# Altium integrated library Infineon_Power_DC-DC-Converter.IntLib: 32 symbols (part 1 of 3)
Pins are listed as number, name and electrical type; pins without a type are passive.

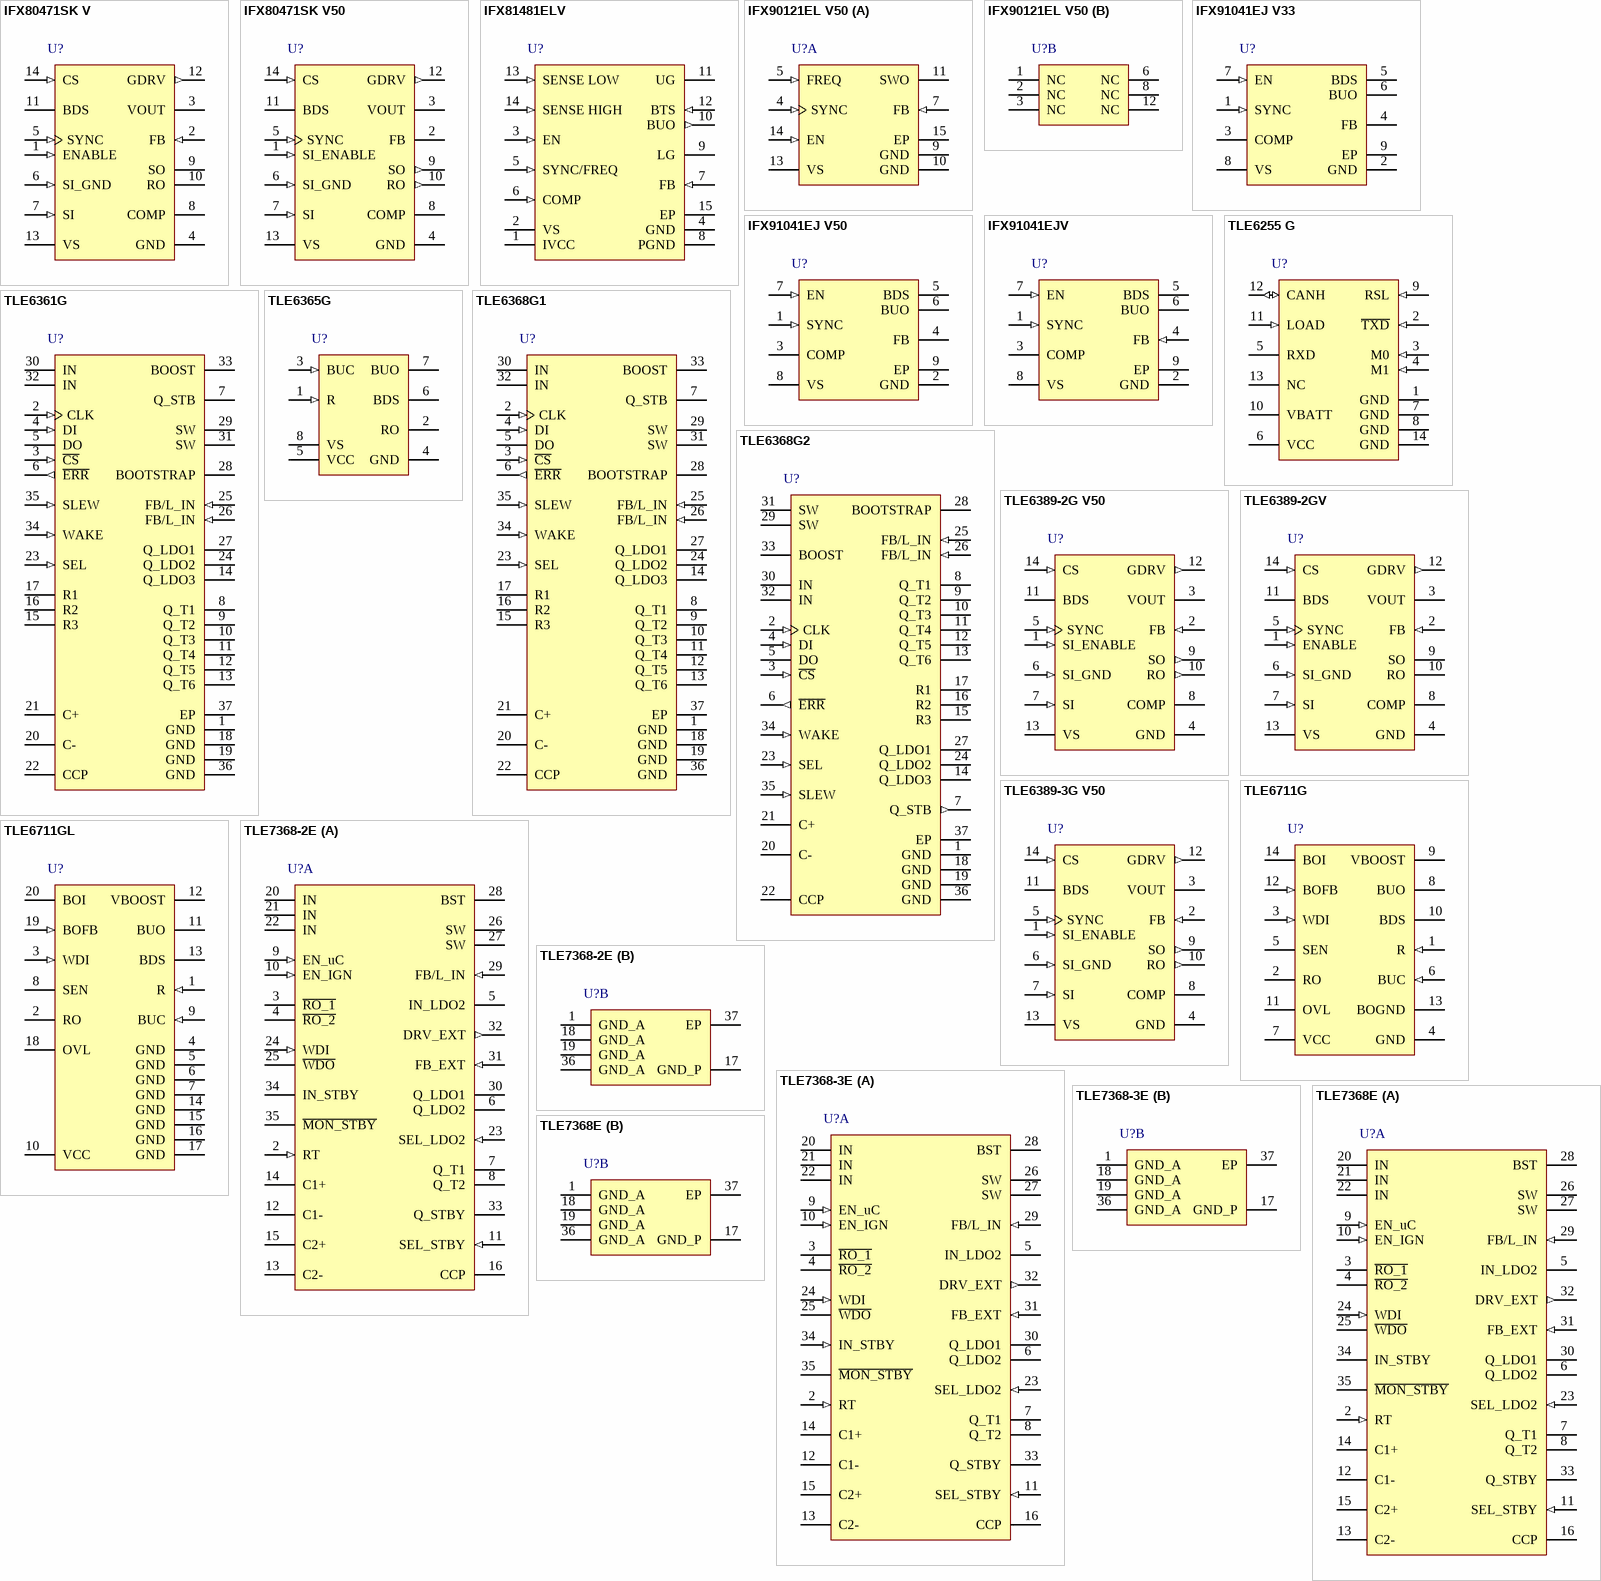
[diagram p0: symbols IFX80471SK V to TLE7368E]

## IFX80471SK V
designator U?
Step-Down DC/DC Controller, 2,300 mA Iq, -40 to 125 degC, PG-DSO-14-1, Reel, Green; Manufacturer: Infineon; PartNumber: IFX80471SK V; Green: TRUE; Iq (typ): 130 uA; Max Number Reflow: 3; Max Peak Reflow Temp: 260 degC; Output: Buck Converter; Tolerance: 3(5)%; VQ (max): adjustable; DatasheetVersion: Rev. 1.0; PackageVersion: Apr-11; PackageReference: PG-DSO-14-1; PackageDescription: 14-Pin Plastic (Green) Dual Small Outline Package, 8.65 x 3.9 mm Body, 1.27 mm Pitch; Supplier 1: Mouser; Supplier Part Number 1: 726-IFX80471SKV; Supplier 2: Digi-Key; Supplier Part Number 2: IFX80471SK VINTR-ND; Supplier 3: Digi-Key; Supplier Part Number 3: IFX80471SK VINCT-ND; Supplier 4: Digi-Key; Supplier Part Number 4: IFX80471SK VINDKR-ND; Halogen-free: TRUE; Inhibit: TRUE; IQ (max): 2,300 mA; MSL: 3; Packing: Reel; Protect: TRUE; Reset: TRUE; Mounting Technology: Surface Mount; ComponentLink1Description: Manufacturer URL; ComponentLink1URL: http://www.infineon.com/; ComponentLink2Description: Datasheet; ComponentLink2URL: http://www.infineon.com/dgdl/DCDC-Controller-IFX80471-Data-Sheet-V10-Infineon.pdf?folderId=db3a304314dca3890115039cf70d0bf0&fileId=db3a30432e398416012e487ec6e42599; ComponentLink3Description: Package Specification; ComponentLink3URL: http://www.infineon.com/dgdl/DCDC-Controller-IFX80471-Data-Sheet-V10-Infineon.pdf?folderId=db3a304314dca3890115039cf70d0bf0&fileId=db3a30432e398416012e487ec6e42599
footprint INF-PG-DSO-14-1_N (SOP, 14-Leads, Body 8.65x3.9mm, Pitch 1.27mm, IPC Medium Density)
footprint INF-PG-DSO-14-1_L (SOP, 14-Leads, Body 8.65x3.9mm, Pitch 1.27mm, IPC High Density)
footprint INF-PG-DSO-14-1_M (SOP, 14-Leads, Body 8.65x3.9mm, Pitch 1.27mm, IPC Low Density)
pins: 1 ENABLE (in) "Active-High enable input (only adjustable version, IFX80471SKV) for the  device.  The device is shut down when ENABLE is driven low. In this shut down-mode the  reference, the output and the external MOSFET are turned off. (See Datasheet)", 2 FB (in) "Feedback input. 1. For adjustable version (IFX80471SKV) connect this pin to an external voltage  divider from the output to GND (see Chapter 7.2). 2. For the 5V fixed output voltage version (IFX80471SKV50) the FB is (See Datasheet)", 3 VOUT (power) "Buck output voltage input. Input for the internal supply. Connect always to the output of the buck converter  (output capacitor).", 4 GND (power) "Ground connection. Analog signal ground", 5 SYNC (in) "Input for external frequency synchronization.  An external clock signal connected to this pin allows switching frequency  synchronization of the device. The internal oscillator is clocked then by the  frequency applied at (See Datasheet)", 6 SI_GND (in) "SI-Ground input.  Ground connection for SI comparator resistor divider. Depending on SI_ENABLE  this input is switched to high impedance or low ohmic to GND.", 7 SI (in) "Sense comparator input.  Input of the low-battery comparator. This input is compared to an internal 1.25V  reference where SO gives the result of the comparison. Can be used for any  comparison, not necessarily as battery (See Datasheet)", 8 COMP "Compensation input. Connect via RC-compensation network to GND.", 9 SO (oc) "Sense comparator output.  Open drain output from SI comparator at the adjustable version (IFX80471SKV), Pull down structure with an internal 20kohm pull up resistor to VOUT at the 5V version  (IFX80471SKV50).", 10 RO (oc) "Reset output.  Open drain output from undervoltage reset comparator at the adjustable version  (IFX80471SKV), Pull down structure with an internal 20kohm pull up resistor to VOUT at the 5V version  (IFX80471SKV50).", 11 BDS (power) "Buck driver supply input.  Connect a ceramic capacitor between BDS and VS to generate clamped gatesource voltage to supply the driver of the PMOS power stage.", 12 GDRV (out) "Gate drive output. Connect to the gate of the external P-Channel MOSFET. The voltage at GDRV  swings between the levels of VS and BDS.", 13 VS (power) "Device supply input.  Connect a 220nF ceramic cap close to the pin in addition to the low ESR tantalum  input capacitance.", 14 CS (in) "Current-sense input.  Connect current-sense resistor between VS and CS. The voltage drop over the  sense-resistor determines the peak current flowing in the buck circuit. The external  MOSFET is turned off when the peak (See Datasheet)"

## IFX80471SK V50
designator U?
Step-Down DC/DC Controller, 2,300 mA Iq, -40 to 125 degC, PG-DSO-14-1, Reel, Green; Manufacturer: Infineon; PartNumber: IFX80471SK V50; Green: TRUE; Iq (typ): 130 uA; Max Number Reflow: 3; Max Peak Reflow Temp: 260 degC; Output: Buck Converter; Tolerance: 3(5)%; VQ (max): 5 V; DatasheetVersion: Rev. 1.0; PackageVersion: Apr-11; PackageReference: PG-DSO-14-1; PackageDescription: 14-Pin Plastic (Green) Dual Small Outline Package, 8.65 x 3.9 mm Body, 1.27 mm Pitch; Supplier 1: Mouser; Supplier Part Number 1: 726-IFX80471SKV50; Supplier 2: Digi-Key; Supplier Part Number 2: IFX80471SK V50INTR-ND; Supplier 3: Digi-Key; Supplier Part Number 3: IFX80471SK V50INCT-ND; Supplier 4: Digi-Key; Supplier Part Number 4: IFX80471SK V50INDKR-ND; Halogen-free: TRUE; Inhibit: TRUE; IQ (max): 2,300 mA; MSL: 3; Packing: Reel; Protect: TRUE; Reset: TRUE; Mounting Technology: Surface Mount; ComponentLink1Description: Manufacturer URL; ComponentLink1URL: http://www.infineon.com/; ComponentLink2Description: Datasheet; ComponentLink2URL: http://www.infineon.com/dgdl/DCDC-Controller-IFX80471-Data-Sheet-V10-Infineon.pdf?folderId=db3a304314dca3890115039cf70d0bf0&fileId=db3a30432e398416012e487ec6e42599; ComponentLink3Description: Package Specification; ComponentLink3URL: http://www.infineon.com/dgdl/DCDC-Controller-IFX80471-Data-Sheet-V10-Infineon.pdf?folderId=db3a304314dca3890115039cf70d0bf0&fileId=db3a30432e398416012e487ec6e42599
footprint INF-PG-DSO-14-1_N (SOP, 14-Leads, Body 8.65x3.9mm, Pitch 1.27mm, IPC Medium Density)
footprint INF-PG-DSO-14-1_L (SOP, 14-Leads, Body 8.65x3.9mm, Pitch 1.27mm, IPC High Density)
footprint INF-PG-DSO-14-1_M (SOP, 14-Leads, Body 8.65x3.9mm, Pitch 1.27mm, IPC Low Density)
pins: 1 SI_ENABLE (in) "Active-High enable input (only 5V version, IFX80471SKV50) for SI_GND input. SI_GND is switched to high impedance when SI_ENABLE is low. High level at  SI_ENABLE connects SI_GND to GND with low impedance. SO is undefined when (See Datasheet)", 2 FB "Feedback input. 1. For adjustable version (IFX80471SKV) connect this pin to an external voltage  divider from the output to GND (see Chapter 7.2). 2. For the 5V fixed output voltage version (IFX80471SKV50) the FB is (See Datasheet)", 3 VOUT (power) "Buck output voltage input. Input for the internal supply. Connect always to the output of the buck converter  (output capacitor).", 4 GND (power) "Buck output voltage input. Input for the internal supply. Connect always to the output of the buck converter  (output capacitor).", 5 SYNC (in) "Input for external frequency synchronization.  An external clock signal connected to this pin allows switching frequency  synchronization of the device. The internal oscillator is clocked then by the  frequency applied at (See Datasheet)", 6 SI_GND (in) "SI-Ground input.  Ground connection for SI comparator resistor divider. Depending on SI_ENABLE  this input is switched to high impedance or low ohmic to GND.", 7 SI (in) "Sense comparator input.  Input of the low-battery comparator. This input is compared to an internal 1.25V  reference where SO gives the result of the comparison. Can be used for any  comparison, not necessarily as battery (See Datasheet)", 8 COMP "Compensation input. Connect via RC-compensation network to GND.", 9 SO (out) "Sense comparator output.  Open drain output from SI comparator at the adjustable version (IFX80471SKV), Pull down structure with an internal 20kohm pull up resistor to VOUT at the 5V version  (IFX80471SKV50).", 10 RO (out) "Reset output.  Open drain output from undervoltage reset comparator at the adjustable version  (IFX80471SKV), Pull down structure with an internal 20kohm pull up resistor to VOUT at the 5V version  (IFX80471SKV50).", 11 BDS (power) "Buck driver supply input.  Connect a ceramic capacitor between BDS and VS to generate clamped gatesource voltage to supply the driver of the PMOS power stage.", 12 GDRV (out) "Gate drive output. Connect to the gate of the external P-Channel MOSFET. The voltage at GDRV  swings between the levels of VS and BDS.", 13 VS (power) "Device supply input.  Connect a 220nF ceramic cap close to the pin in addition to the low ESR tantalum  input capacitance.", 14 CS (in) "Current-sense input.  Connect current-sense resistor between VS and CS. The voltage drop over the  sense-resistor determines the peak current flowing in the buck circuit. The external  MOSFET is turned off when the peak (See Datasheet)"

## IFX81481ELV
designator U?
10 A Synchronous DC/DC Step-Down Controller, Adjustable Vout, -40 to 125 degC, PG-SSOP-14, Reel, Green; Manufacturer: Infineon; PartNumber: IFX81481ELV; Green: TRUE; IQ (max): 10 A; Output: Buck Controller; Reset: FALSE; Tolerance: 2 %; DatasheetVersion: Rev. 1.0; PackageVersion: Oct-08; PackageReference: PG-SSOP-14; PackageDescription: 14-Pin Plastic (Green) Shrink Small Outline Package, 4.9 x 3.9 mm Body, 0.65 mm Pitch; Supplier 1: Mouser; Supplier Part Number 1: N/A; Halogen-free: TRUE; Inhibit: TRUE; Mounting: SMT; Packing: Reel; Protect: TRUE; VQ (max): adjustable; Mounting Technology: Surface Mount; ComponentLink1Description: Manufacturer URL; ComponentLink1URL: http://www.infineon.com/; ComponentLink2Description: Datasheet; ComponentLink2URL: http://www.infineon.com/dgdl/IFX81481-Data-Sheet-1.0-Infineon.pdf?folderId=db3a304314dca3890115039cf70d0bf0&fileId=db3a30434149311501414a3ab029004a; ComponentLink3Description: Package Specification; ComponentLink3URL: http://www.infineon.com/dgdl/PG-SSOP-14-1%2C-2%2C-3%2C-5-Package_Overview.pdf?folderId=db3a304327b897500127f79f69566553&fileId=db3a3043422231a901422ce38a900db8
footprint INF-PG-SSOP-14_N (SOP, 14-Leads, Body 4.9x3.9mm, Pitch 0.65mm, Thermal Pad 3.2x2.75mm, IPC Medium Density)
footprint INF-PG-SSOP-14_L (SOP, 14-Leads, Body 4.9x3.9mm, Pitch 0.65mm, Thermal Pad 3.2x2.85mm, IPC High Density)
footprint INF-PG-SSOP-14_M (SOP, 14-Leads, Body 4.9x3.9mm, Pitch 0.65mm, Thermal Pad 3.2x2.55mm, IPC Low Density)
pins: 1 IVCC (power) "Internal Voltage Supply, Output of the internal linear regulator, supply for low-side driver and through internal bootstrap diode to high-side driver, connect a capacitor between this pin and GND", 2 VS (power) "Input Voltage Connect to input voltage for internal power supply", 3 EN (in) "Enable Input, Active-high enable input with integrated pull down resistor", 4 GND (power) "Ground, Connect to ground plane", 5 SYNC/FREQ (in) "Synchronization and Oscillator frequency set Input, Connect to an external clock signal in order to synchronize/adjust the switching frequency (SYNC-mode). Connect an external resistor to set the frequency (FREQ-mode)", 6 COMP (in) "Compensation Input, Frequency compensation for regulation loop stability Connect to compensation network", 7 FB (in) "Feedback Input, Connect via voltage divider to output capacitor", 8 PGND (power) "Power Ground, Connect to Ground plane", 9 LG (power) "Low-side MOSFET driver output, Driving output for the low-side external power MOSFET, connect to gate", 10 BUO (out) "Buck Switch Out, Connect this point between the switching transistors,floating ground for high-side driver", 11 UG (power) "Up-side MOSFET driver output, Driving output for the high-side external power MOSFET, connect to gate", 12 BTS (in) "Buck Driver Supply Input, Connect the bootstrap capacitor between this pin and pin BUO", 13 SENSE LOW (in) "Current sensing (low-side) input, For Shunt-configuration connect a shunt resistor from senselow to input/battery voltage, for Rdson-configuration connect to source of the high-side MOSFET", 14 SENSE HIGH (in) "Current sensing (high-side) input, Connect a resistor between battery and this pin to adjust the current threshold for both Rdson and Shunt configurations", 15 EP (power) "Connect to heatsink area and GND by low inductance wiring"

## IFX90121EL V50
designator U?
500 mA, 2.2 MHz Step-Down Regulator with Low Quiescent Current, 45 uA Iq, 5 V, -40 to 125 degC, PG-SSOP-14, Reel, Green; Manufacturer: Infineon; PartNumber: IFX90121EL V50; Green: TRUE; IQ (max): 500 mA; Iq (typ): 45 uA; Output: Buck Converter; Reset: FALSE; Tolerance: 2%; VQ (max): 5 V; DatasheetVersion: Rev. 1.0; PackageVersion: Oct-08; PackageReference: PG-SSOP-14; PackageDescription: 14-Pin Plastic (Green) Shrink Small Outline Package, 4.9 x 3.9 mm Body, 0.65 mm Pitch; Halogen-free: TRUE; Inhibit: TRUE; Mounting: SMT; Packing: Reel; Protect: TRUE; Mounting Technology: Surface Mount; ComponentLink1Description: Manufacturer URL; ComponentLink1URL: http://www.infineon.com/; ComponentLink2Description: Datasheet; ComponentLink2URL: http://www.infineon.com/dgdl/IFX90121-Data-Sheet-1.0-Infineon.pdf?folderId=db3a304314dca3890115039cf70d0bf0&fileId=db3a30433fa9412f013fc73e0cc43e1d; ComponentLink3Description: Package Specification; ComponentLink3URL: http://www.infineon.com/dgdl/PG-SSOP-14-1%2C-2%2C-3%2C-5-Package_Overview.pdf?folderId=db3a304327b897500127f79f69566553&fileId=db3a3043422231a901422ce38a900db8
footprint INF-PG-SSOP-14_N (SOP, 14-Leads, Body 4.9x3.9mm, Pitch 0.65mm, Thermal Pad 3.2x2.75mm, IPC Medium Density)
footprint INF-PG-SSOP-14_L (SOP, 14-Leads, Body 4.9x3.9mm, Pitch 0.65mm, Thermal Pad 3.2x2.85mm, IPC High Density)
footprint INF-PG-SSOP-14_M (SOP, 14-Leads, Body 4.9x3.9mm, Pitch 0.65mm, Thermal Pad 3.2x2.55mm, IPC Low Density)
part A pins: 4 SYNC (in) "Synchronization Input, Connect to an external clock signal in order to synchronize/adjust the switching frequency. This feature is not functionally in PFM mode", 5 FREQ (in) "Frequency Adjustment Pin,Connect an external resistor to GND to adjust the switching frequency, do not leave open. Incase the synchronization option is used, the resistor must be dimensioned close to the desired (See Datasheet)", 7 FB (in) "Feedback Input, Connect this pin directly to the output capacitor. Also input for internal power supply. The internal power supply is taken from the output voltage", 9 GND (power) "Ground, Connect this pin directly with low inductive and broad trace to ground, do not leave open.", 10 GND (power) "Ground, Connect this pin directly with low inductive and broad trace to ground, do not leave open.", 11 SWO (oe) "Buck Switch Output, Drain of the integrated power-PMOS transistor. Connect directly to the cathode of the catchdiode and the buck circuit inductance", 13 VS (power) "Supply Voltage Input, Connect to supply voltage source.", 14 EN (in) "Enable Input, Switch to high level to enable the device, switch to low level to disable the device.", 15 EP (power) "Connect to heatsink area and GND by low inductance wiring."
part B pins: 1 NC "Not Connected. Internally not connected. Leave open or connect to GND", 2 NC "Not Connected. Internally not connected. Leave open or connect to GND", 3 NC "Not Connected. Internally not connected. Leave open or connect to GND", 6 NC "Not Connected. Internally not connected. Leave open or connect to GND", 8 NC "Not Connected. Internally not connected. Leave open or connect to GND", 12 NC "Not Connected. Internally not connected. Leave open or connect to GND"

## IFX91041EJ V33
designator U?
1.8 A DC/DC Step-Down Voltage Regulator, -40 to 150 degC, PG-DSO-8-27, Reel, Green; Manufacturer: Infineon; PartNumber: IFX91041EJ V33; Green: TRUE; IQ (max): 1,800 mA; Iq (typ): 7,000 uA; Max Number Reflow: 3; Max Peak Reflow Temp: 260 degC; Output: Buck Converter; Reset: FALSE; Tolerance: 2(4)%; VQ (max): 3.3 V; DatasheetVersion: Rev. 1.1; PackageVersion: V01, 06/2012; PackageReference: PG-DSO-8-27; PackageDescription: 8-Pin Plastic (Green) Dual Small Outline Package, 4.9 x 3.9 mm Body, 1.27 mm Pitch; Supplier 1: Mouser; Supplier Part Number 1: 726-IFX91041EJV33; Supplier 2: Digi-Key; Supplier Part Number 2: IFX91041EJ V33INTR-ND; Supplier 3: Digi-Key; Supplier Part Number 3: IFX91041EJ V33INCT-ND; Supplier 4: Digi-Key; Supplier Part Number 4: IFX91041EJ V33INDKR-ND; Halogen-free: TRUE; Inhibit: TRUE; MSL: 3; Packing: Reel; Protect: TRUE; Mounting Technology: Surface Mount; Code_JEDEC: MS-012; ComponentLink1Description: Manufacturer URL; ComponentLink1URL: http://www.infineon.com/; ComponentLink2Description: Datasheet; ComponentLink2URL: http://www.infineon.com/dgdl/IFX91041_DS_11.pdf?folderId=db3a304314dca3890115039cf70d0bf0&fileId=db3a304320d39d59012153afb91a0548; ComponentLink3Description: Package Specification; ComponentLink3URL: http://www.infineon.com/dgdl/ILD4071_DS_V10_November2011.pdf?folderId=db3a30431f848401011fcbf2ab4c04c4&fileId=db3a30433784a04001380498fdf04c32
footprint INF-PG-DSO-8-27_N (SOP, 8-Leads, Body 4.9x3.9mm, Pitch 1.27mm, Thermal Pad 3.2x2.85mm, IPC Medium Density)
footprint INF-PG-DSO-8-27_L (SOP, 8-Leads, Body 4.9x3.9mm, Pitch 1.27mm, Thermal Pad 3.2x2.85mm, IPC High Density)
footprint INF-PG-DSO-8-27_M (SOP, 8-Leads, Body 4.9x3.9mm, Pitch 1.27mm, Thermal Pad 3.2x2.85mm, IPC Low Density)
pins: 1 SYNC (in) "Synchronization Input. Connect to an external clock signal in order to synchronize/adjust the switching frequency.  If not used connect to GND.", 2 GND (power) "Ground.", 3 COMP "Compensation Input. Frequency compensation for regulation loop stability.  Connect to compensation RC-network.", 4 FB "Feedback Input. For the adjustable output voltage versions (IFX91041EJV) connect via voltage divider to output  capacitor.  For the fixed voltage version (IFX91041EJV50, IFX91041EJV33) connect this pin directly to the  (See Datasheet)", 5 BDS (power) "Buck Driver Supply Input. Connect the bootstrap capacitor between this pin and pin BUO.", 6 BUO (power) "Buck Switch Output. Source of the integrated power-DMOS transistor. Connect directly to the cathode of the catch  diode and the buck circuit inductance.", 7 EN (in) "Enable Input. Active-high enable input with integrated pull down resistor.", 8 VS (power) "Supply Voltage Input. Connect to supply voltage source.", 9 EP (power) "Connect to heatsink area and GND by low inductance wiring."

## IFX91041EJ V50
designator U?
1.8 A DC/DC Step-Down Voltage Regulator, -40 to 150 degC, PG-DSO-8-27, Reel, Green; Manufacturer: Infineon; PartNumber: IFX91041EJ V50; Green: TRUE; IQ (max): 1,800 mA; Iq (typ): 7,000 uA; Max Number Reflow: 3; Max Peak Reflow Temp: 260 degreesC; Output: Buck Converter; Reset: FALSE; Tolerance: 2(4)%; VQ (max): 5 V; DatasheetVersion: Rev. 1.1; PackageVersion: V01, 06/2012; PackageReference: PG-DSO-8-27; PackageDescription: 8-Pin Plastic (Green) Dual Small Outline Package, 4.9 x 3.9 mm Body, 1.27 mm Pitch; Supplier 1: Mouser; Supplier Part Number 1: 726-IFX91041EJV50; Supplier 2: Newark; Supplier Part Number 2: 78X5181; Supplier 3: Farnell; Supplier Part Number 3: 2432504; Supplier 4: Digi-Key; Supplier Part Number 4: IFX91041EJ V50INTR-ND; Supplier 5: Digi-Key; Supplier Part Number 5: IFX91041EJ V50INCT-ND; Supplier 6: Digi-Key; Supplier Part Number 6: IFX91041EJ V50INDKR-ND; Halogen-free: TRUE; Inhibit: TRUE; MSL: 3; Packing: Reel; Protect: TRUE; Mounting Technology: Surface Mount; Code_JEDEC: MS-012; ComponentLink1Description: Manufacturer URL; ComponentLink1URL: http://www.infineon.com/; ComponentLink2Description: Datasheet; ComponentLink2URL: http://www.infineon.com/dgdl/IFX91041_DS_11.pdf?folderId=db3a304314dca3890115039cf70d0bf0&fileId=db3a304320d39d59012153afb91a0548; ComponentLink3Description: Package Specification; ComponentLink3URL: http://www.infineon.com/dgdl/ILD4071_DS_V10_November2011.pdf?folderId=db3a30431f848401011fcbf2ab4c04c4&fileId=db3a30433784a04001380498fdf04c32
footprint INF-PG-DSO-8-27_N (SOP, 8-Leads, Body 4.9x3.9mm, Pitch 1.27mm, Thermal Pad 3.2x2.85mm, IPC Medium Density)
footprint INF-PG-DSO-8-27_L (SOP, 8-Leads, Body 4.9x3.9mm, Pitch 1.27mm, Thermal Pad 3.2x2.85mm, IPC High Density)
footprint INF-PG-DSO-8-27_M (SOP, 8-Leads, Body 4.9x3.9mm, Pitch 1.27mm, Thermal Pad 3.2x2.85mm, IPC Low Density)
pins: 1 SYNC (in) "Synchronization Input. Connect to an external clock signal in order to synchronize/adjust the switching frequency.  If not used connect to GND.", 2 GND (power) "Ground.", 3 COMP "Compensation Input. Frequency compensation for regulation loop stability.  Connect to compensation RC-network.", 4 FB "Feedback Input. For the adjustable output voltage versions (IFX91041EJV) connect via voltage divider to output  capacitor.  For the fixed voltage version (IFX91041EJV50, IFX91041EJV33) connect this pin directly to the  (See Datasheet)", 5 BDS (power) "Buck Driver Supply Input. Connect the bootstrap capacitor between this pin and pin BUO.", 6 BUO (power) "Buck Switch Output. Source of the integrated power-DMOS transistor. Connect directly to the cathode of the catch  diode and the buck circuit inductance.", 7 EN (in) "Enable Input. Active-high enable input with integrated pull down resistor.", 8 VS (power) "Supply Voltage Input. Connect to supply voltage source.", 9 EP (power) "Connect to heatsink area and GND by low inductance wiring."

## IFX91041EJV
designator U?
1.8 A DC/DC Step-Down Voltage Regulator, -40 to 150 degC, PG-DSO-8-27, Reel, Green; Manufacturer: Infineon; PartNumber: IFX91041EJV; Green: TRUE; IQ (max): 1,800 mA; Iq (typ): 7,000 uA; Max Number Reflow: 3; Max Peak Reflow Temp: 260 degreesC; Output: Buck Converter; Reset: FALSE; Tolerance: 2(4)%; VQ (max): adjustable; DatasheetVersion: Rev. 1.1; PackageVersion: V01, 06/2012; PackageReference: PG-DSO-8-27; PackageDescription: 8-Pin Plastic (Green) Dual Small Outline Package, 4.9 x 3.9 mm Body, 1.27 mm Pitch; Supplier 1: Mouser; Supplier Part Number 1: 726-IFX91041EJV; Supplier 2: Digi-Key; Supplier Part Number 2: IFX91041EJVINTR-ND; Supplier 3: Digi-Key; Supplier Part Number 3: IFX91041EJVINCT-ND; Supplier 4: Digi-Key; Supplier Part Number 4: IFX91041EJVINDKR-ND; Halogen-free: TRUE; Inhibit: TRUE; MSL: 3; Packing: Reel; Protect: TRUE; Mounting Technology: Surface Mount; Code_JEDEC: MS-012; ComponentLink1Description: Manufacturer URL; ComponentLink1URL: http://www.infineon.com/; ComponentLink2Description: Datasheet; ComponentLink2URL: http://www.infineon.com/dgdl/IFX91041_DS_11.pdf?folderId=db3a304314dca3890115039cf70d0bf0&fileId=db3a304320d39d59012153afb91a0548; ComponentLink3Description: Package Specification; ComponentLink3URL: http://www.infineon.com/dgdl/ILD4071_DS_V10_November2011.pdf?folderId=db3a30431f848401011fcbf2ab4c04c4&fileId=db3a30433784a04001380498fdf04c32
footprint INF-PG-DSO-8-27_N (SOP, 8-Leads, Body 4.9x3.9mm, Pitch 1.27mm, Thermal Pad 3.2x2.85mm, IPC Medium Density)
footprint INF-PG-DSO-8-27_L (SOP, 8-Leads, Body 4.9x3.9mm, Pitch 1.27mm, Thermal Pad 3.2x2.85mm, IPC High Density)
footprint INF-PG-DSO-8-27_M (SOP, 8-Leads, Body 4.9x3.9mm, Pitch 1.27mm, Thermal Pad 3.2x2.85mm, IPC Low Density)
pins: 1 SYNC (in) "Synchronization Input. Connect to an external clock signal in order to synchronize/adjust the switching frequency.  If not used connect to GND.", 2 GND (power) "Ground.", 3 COMP "Compensation Input. Frequency compensation for regulation loop stability.  Connect to compensation RC-network.", 4 FB (in) "Feedback Input. For the adjustable output voltage versions (IFX91041EJV) connect via voltage divider to output  capacitor.  For the fixed voltage version (IFX91041EJV50, IFX91041EJV33) connect this pin directly to the  (See Datasheet)", 5 BDS (power) "Buck Driver Supply Input. Connect the bootstrap capacitor between this pin and pin BUO.", 6 BUO (power) "Buck Switch Output. Source of the integrated power-DMOS transistor. Connect directly to the cathode of the catch  diode and the buck circuit inductance.", 7 EN (in) "Enable Input. Active-high enable input with integrated pull down resistor.", 8 VS (power) "Supply Voltage Input. Connect to supply voltage source.", 9 EP (power) "Connect to heatsink area and GND by low inductance wiring."

## TLE6255 G
designator U?
Single Wire CAN-Transceiver, -40 to 150 degC, P-DSO-14-9, Reel; Manufacturer: Infineon; PartNumber: TLE6255 G; DatasheetVersion: Rev. 2.5; PackageVersion: Nov-03; PackageReference: P-DSO-14-9; PackageDescription: 14-Pin Plastic Dual Small Outline Package, 8.65 x 3.9 mm Body, 1.27 mm Pitch; Mounting Technology: Surface Mount; ComponentLink1Description: Manufacturer URL; ComponentLink1URL: http://www.infineon.com/; ComponentLink2Description: Datasheet; ComponentLink2URL: http://www.infineon.com/dgdl/tle6255finalDSV25.pdf?folderId=db3a304412b407950112b436d8af66e2&fileId=db3a304412b407950112b436d92f66e3&location=en.Products.Automotive_ICs.Automotive_Transceivers.CAN_Transceivers.DATASHEET.tle6255finalDSV25.pdf; ComponentLink3Description: Package Specification; ComponentLink3URL: http://www.infineon.com/dgdl/tle6255finalDSV25.pdf?folderId=db3a304412b407950112b436d8af66e2&fileId=db3a304412b407950112b436d92f66e3&sId=db3a30443d67b5ca013d7f6965762b94
footprint INF-P-DSO-14-9_N (SOP, 14-Leads, Body 8.65x3.9mm, Pitch 1.27mm, IPC Medium Density)
footprint INF-P-DSO-14-9_L (SOP, 14-Leads, Body 8.65x3.9mm, Pitch 1.27mm, IPC High Density)
footprint INF-P-DSO-14-9_M (SOP, 14-Leads, Body 8.65x3.9mm, Pitch 1.27mm, IPC Low Density)
pins: 1 GND (power) "Ground; internally connected to leadframe", 2 ~{TXD} (in) "Transceive-Input; low active, logic command to transmit on the single wire CAN bus; inverting: T\X\D\ = low causes CANH = dominant (high level); internal 10 kohm pull up", 3 M0 (in) "Mode-Input 0; to program the device operating mode; internal pull down", 4 M1 (in) "Mode-Input 1; to program the device operating mode; internal pull down", 5 RXD (oc) "Receive-Output; open drain, logic data as sensed on the single wire CAN bus; inverting (RxD = L when CANH is dominant)", 6 VCC (power) "Supply Voltage; input for 5 V logic supply voltage", 7 GND (power) "Ground; internally connected to leadframe", 8 GND (power) "Ground; internally connected to leadframe", 9 RSL (in) "Slewrate-Program-Input; an external resistor to VCC on this pin is required to program the bus output slewrate", 10 VBATT (power) "Battery Supply Voltage; external blocking capacitor necessary (see application circuit)", 11 LOAD (in) "Unit-Load Resistor Input; internal termination to GND", 12 CANH (io) "CAN Bus Input/Output; single wire bus input and output; short circuit protected", 13 NC "not connected", 14 GND (power) "Ground; internally connected to leadframe"

## TLE6361G
designator U?
Multi-Voltage Processor Power Supply, -40 to 150 degC, P-DSO-36-12, Reel; Manufacturer: Infineon; PartNumber: TLE6361G; Green: FALSE; IQ (max): 1,500 mA; Iq (typ): 30 uA; Output: Linear (Buck Preregulator); DatasheetVersion: Rev. 2.0; PackageVersion: Mar-05; PackageReference: P-DSO-36-12; PackageDescription: 36-Pin Plastic Dual Small Outline Package, 15.9 x 11 mm Body, 0.65 mm Pitch; Supplier 1: Mouser; Supplier Part Number 1: 726-TLE6361G; Supplier 2: Digi-Key; Supplier Part Number 2: TLE6361G-ND; Halogen-free: FALSE; Packing: Reel; Mounting Technology: Surface Mount; ComponentLink1Description: Manufacturer URL; ComponentLink1URL: http://www.infineon.com/; ComponentLink2Description: Datasheet; ComponentLink2URL: http://www.infineon.com/dgdl/Datasheet_TLE6361_v2_cb.pdf?folderId=db3a304412b407950112b408e8c90004&fileId=db3a304412b407950112b43514b86250&location=en.Products.Power_Management_ICs.DC_DC.DC_DC-Converter__Automotive_.DATASHEET.Datasheet_TLE6361_v2_cb.pdf; ComponentLink3Description: Package Specification; ComponentLink3URL: http://www.infineon.com/dgdl/Datasheet_TLE6361_v2_cb.pdf?folderId=db3a304412b407950112b408e8c90004&fileId=db3a304412b407950112b43514b86250&location=en.Products.Power_Management_ICs.DC_DC.DC_DC-Converter__Automotive_.DATASHEET.Datasheet_TLE6361_v2_cb.pdf
footprint INF-P-DSO-36-12_N (SOP, 36-Leads, Body 15.9x11mm, Pitch 0.65mm, Thermal Pad 15.84x6mm, IPC Medium Density)
footprint INF-P-DSO-36-12_L (SOP, 36-Leads, Body 15.9x11mm, Pitch 0.65mm, Thermal Pad 15.84x6mm, IPC High Density)
footprint INF-P-DSO-36-12_M (SOP, 36-Leads, Body 15.9x11mm, Pitch 0.65mm, Thermal Pad 15.84x6mm, IPC Low Density)
pins: 1 GND (power) "Ground; to reduce thermal resistance place cooling areas on PCB close to this pins. Those pins are connected internally to the heatslug at the bottom.", 2 CLK (in) "SPI Interface Clock input; clocks the shiftregister; CLK has an internal active pull down and requires CMOS logic level inputs;see also chapter SPI", 3 ~{CS} (in) "SPI Interface chip select input; C\S\ is an active low input; serial communication is enabled by pulling the C\S\ terminal low; C\S\ input should only be switched when CLK is low; C\S\ has an internal active pull up and (See Datasheet)", 4 DI (in) "SPI Interface Date input; receives serial data from the control device; serial data transmitted to DI is a 16 bit control word with the Least Significant Bit (LSB) being transferred first; the input has an active pull down (See Datasheet)", 5 DO (hiz) "SPI Interface Data output; this tristate output transfers diagnosis data to the controlling device; the output will remain 3-stated unless the device is selected by a low on Chip-Select C\S\; see also the chapter SPI", 6 ~{ERR} (out) "Error output; push-pull output. Monitors failures in parallel to the SPI diagnosis word, reset via SPI. E\R\R\ is a latched output.", 7 Q_STB (power) "Standby Regulator Output; the output is active even when the buck regulator and all other circuitry is in off mode", 8 Q_T1 (power) "Voltage Tracker Output T1 tracked to Q_LDO1; bypass with a 1uF ceramic capacitor for stability. It is switched on and off by SPI command. Keep open, if not needed.", 9 Q_T2 (power) "Voltage Tracker Output T2 tracked to Q_LDO1; bypass with a 1uF ceramic capacitor for stability. It is switched on and off by SPI command. Keep open, if not needed.", 10 Q_T3 (power) "Voltage Tracker Output T3 tracked to Q_LDO1; bypass with a 1uF ceramic capacitor for stability. It is switched on and off by SPI command. Keep open, if not needed.", 11 Q_T4 (power) "Voltage Tracker Output T4 tracked to Q_LDO1; bypass with a 1uF ceramic capacitor for stability. It is switched on and off by SPI command. Keep open, if not needed.", 12 Q_T5 (power) "Voltage Tracker Output T5 tracked to Q_LDO1; bypass with a 1uF ceramic capacitor for stability. It is switched on and off by SPI command. Keep open, if not needed.", 13 Q_T6 (power) "Voltage Tracker Output T6 tracked to Q_LDO1; bypass with a 1uF ceramic capacitor for stability. It is switched on and off by SPI command. Keep open, if not needed.", 14 Q_LDO3 (power) "Voltage Regulator Output 3; 5V or 3.3V output; ouput voltage is selected by pin SEL (see also 3.4.2); For stability a ceramic capacitor of 470nF to GND is sufficient.", 15 R3 (oc) "Reset output 3, undervoltage detection for output Q_LDO3; open collector output; an external pullup resistor of 10kOhm is required", 16 R2 (oc) "Reset output 2, undervoltage detection for output Q_LDO3; open collector output; an external pullup resistor of 10kOhm is required", 17 R1 (oc) "Reset output 1, undervoltage detection for output Q_LDO3; open collector output; an external pullup resistor of 10kOhm is required", 18 GND (power) "Ground; to reduce thermal resistance place cooling areas on PCB close to this pins. Those pins are connected internally to the heatslug at the bottom.", 19 GND (power) "Ground; to reduce thermal resistance place cooling areas on PCB close to this pins. Those pins are connected internally to the heatslug at the bottom.", 20 C- "Charge pump capacitor connection; Add the fly-capacitor of 100nF between C+ and C-", 21 C+ "Charge pump capacitor connection; Add the fly-capacitor of 100nF between C+ and C-", 22 CCP (power) "Charge Pump Storage Capacitor Output; Add the storage capacitor of 220nF between pin CCP and GND.", 23 SEL (in) "Select Pin for output voltage adjust of Q_LDO2 and Q_LDO3 (see also 2.2.2)", 24 Q_LDO2 (power) "Voltage Regulator Output 2; 3.3V or 2.6V output; output voltage is selected by pin SEL (see also 3.4.2); For stability a ceramic capacitor of 470nF to GND is sufficient.", 25 FB/L_IN (in) "Feedback and Linear Regulator Input; input connection for the Buck converter output", 26 FB/L_IN (in) "Feedback and Linear Regulator Input; input connection for the Buck converter output", 27 Q_LDO1 (power) "Voltage Regulator Output 1; 5V output; acts as the reference for the voltage trackers.The SPI and window watchdog logic is supplied from this voltage. For stability a ceramic capacitor of 470nF to GND is sufficient.", 28 BOOTSTRAP (power) "Bootstrap Input; add the bootstrap capacitor between pin SW and pin Bootstrap, the capcitance value should be not lower than 2% of the Buck converter output capacitance", 29 SW (power) "Switch Output; connect both pins externally through short lines directly to the cathode of the catch diode and the Buck circuit inductance.", 30 IN (power) "Supply Voltage Input; connect both pins externally through short lines to the input filter/the input capacitors.", 31 SW (power) "Switch Output; connect both pins externally through short lines directly to the cathode of the catch diode and the Buck circuit inductance.", 32 IN (power) "Supply Voltage Input; connect both pins externally through short lines to the input filter/the input capacitors.", 33 BOOST (power) "Boost Input; for switching loss minimization connect a diode (cathode directly to boost pin) in series with a 100nF ceramic capacitor to the IN pin and from the anode of the diode to the buck converter output a 22Ohm (See Datasheet)", 34 WAKE (in) "Wake Up Input; a positive voltage applied to this pin turns on the device", 35 SLEW (in) "Slew control Input; a resistor to GND defines the current slope in the buck switch for reduced EME", 36 GND (power) "Ground; to reduce thermal resistance place cooling areas on PCB close to this pins. Those pins are connected internally to the heatslug at the bottom.", 37 EP (power)

## TLE6365G
designator U?
Step Down Voltage Regulator with Reset, -40 to 150 degC, PG-DSO-8-16, Reel, Green; Manufacturer: Infineon; PartNumber: TLE6365G; Green: TRUE; IQ (max): 400 mA; Iq (typ): 1,500 uA; Output: Buck Converter; Tolerance: 2%; VQ (max): 5V; DatasheetVersion: Rev. 1.9; PackageVersion: Mar-07; PackageReference: PG-DSO-8-16; PackageDescription: 8-Pin Plastic (Green) Dual Small Outline Package, 4.9 x 3.9 mm Body, 1.27 mm Pitch; Supplier 1: Mouser; Supplier Part Number 1: 726-TLE6365G; Supplier 2: Digi-Key; Supplier Part Number 2: TLE6365GTR-ND; Supplier 3: Digi-Key; Supplier Part Number 3: TLE6365GCT-ND; Supplier 4: Digi-Key; Supplier Part Number 4: TLE6365GDKR-ND; Halogen-free: TRUE; Packing: Reel; Mounting Technology: Surface Mount; ComponentLink1Description: Manufacturer URL; ComponentLink1URL: http://www.infineon.com/; ComponentLink2Description: Datasheet; ComponentLink2URL: http://www.infineon.com/dgdl/TLE6365_DS_19%5B1%5D.pdf?folderId=db3a304318f3fe290118f5a433570040&fileId=db3a30431c48a312011c5644342d0277&location=en.Products.Power_Management_ICs.DC_DC.DC_DC-Converter__Automotive_.DATASHEET.TLE6365_DS_19[1].pdf; ComponentLink3Description: Package Specification; ComponentLink3URL: http://www.infineon.com/dgdl/TLE7259-2GE_DS_rev12.pdf?folderId=db3a3043163797a6011666d32a0c0de1&fileId=db3a3043163797a6011666d4dbb80de2&location=en.Products.Automotive_ICs.Automotive_Transceivers.LIN_Transceivers.DATASHEET.TLE7259-2GE_DS_rev12.pdf
footprint INF-PG-DSO-8-16_N (SOP, 8-Leads, Body 4.9x3.9mm, Pitch 1.27mm, IPC Medium Density)
footprint INF-PG-DSO-8-16_L (SOP, 8-Leads, Body 4.9x3.9mm, Pitch 1.27mm, IPC High Density)
footprint INF-PG-DSO-8-16_M (SOP, 8-Leads, Body 4.9x3.9mm, Pitch 1.27mm, IPC Low Density)
pins: 1 R (in) "Reference Input; an external resistor from this pin to GND  determines the reference current and so the oscillator / switching  frequency.", 2 RO (oc) "Reset Output; open drain output from reset comparator with an  internal pull-up resistor", 3 BUC (in) "Buck-Converter Compensation Input; output of internal error  amplifier; for loop-compensation and therefore stability connect an  external R-C-series combination to GND.", 4 GND (power) "Ground; analog signal ground", 5 VCC (power) "Output Voltage Input; feedback input (with integrated resistor  divider) and logic supply input; external blocking capacitor  necessary", 6 BDS (power) "Buck Driver Supply Input; voltage to drive the buck converter  powerstage", 7 BUO (power) "Buck Converter Output; source of the integrated power-DMOS", 8 VS (power) "Supply Voltage Input; buck converter input voltage; external  blocking capacitor necessary."

## TLE6368G1
designator U?
Multi-Voltage Processor Power Supply, -40 to 150 degC, PG-DSO-36-26, Reel; Manufacturer: Infineon; PartNumber: TLE6368G1; Green: FALSE; IQ (max): 1,500 mA; Iq (typ): 30 uA; Output: Linear (Buck Preregulator); DatasheetVersion: Rev. 2.2; PackageVersion: Aug-09; PackageReference: PG-DSO-36-26; PackageDescription: 36-Pin Plastic (Green) Dual Small Outline Package, 15.9 x 11 mm Body, 0.65 mm Pitch; Supplier 1: Mouser; Supplier Part Number 1: 726-TLE6368G1; Supplier 2: Digi-Key; Supplier Part Number 2: TLE6368G1-ND; Halogen-free: FALSE; Packing: Reel; Mounting Technology: Surface Mount; ComponentLink1Description: Manufacturer URL; ComponentLink1URL: http://www.infineon.com/; ComponentLink2Description: Datasheet; ComponentLink2URL: http://www.infineon.com/dgdl/TLE6368_DS_rev2.2.pdf?folderId=db3a304412b407950112b408e8c90004&fileId=db3a304412b407950112b4364b1965ae&location=en.Products.Power_Management_ICs.DC_DC.DC_DC-Converter__Automotive_.DATASHEET.TLE6368_DS_rev2.2.pdf; ComponentLink3Description: Package Specification; ComponentLink3URL: http://www.infineon.com/dgdl/ITS4880R_DS_11.pdf?folderId=db3a304412b407950112b408e8c90004&fileId=db3a304412b407950112b4295fb340cf&sId=db3a30433db6f09f013dc85930135028
footprint INF-PG-DSO-36-26_N (SOP, 36-Leads, Body 15.9x11mm, Pitch 0.65mm, Thermal Pad 16x6mm, IPC Medium Density)
footprint INF-PG-DSO-36-26_L (SOP, 36-Leads, Body 15.9x11mm, Pitch 0.65mm, Thermal Pad 16x6mm, IPC High Density)
footprint INF-PG-DSO-36-26_M (SOP, 36-Leads, Body 15.9x11mm, Pitch 0.65mm, Thermal Pad 16x6mm, IPC Low Density)
pins: 1 GND (power) "Ground; to reduce thermal resistance place cooling areas on PCB close to this pins. Those pins are connected internally to the heatslug at the bottom.", 2 CLK (in) "SPI Interface Clock input; clocks the shiftregister; CLK has an internal active pull down and requires CMOS logic level inputs;see also chapter SPI", 3 ~{CS} (in) "SPI Interface chip select input; C\S\ is an active low input; serial communication is enabled by pulling the C\S\ terminal low; C\S\ input should only be switched when CLK is low; C\S\ has an internal active pull up and (See Datasheet)", 4 DI (in) "SPI Interface Date input; receives serial data from the control device; serial data transmitted to DI is a 16 bit control word with the Least Significant Bit (LSB) being transferred first; the input has an active pull down (See Datasheet)", 5 DO (hiz) "SPI Interface Data output; this tristate output transfers diagnosis data to the controlling device; the output will remain 3-stated unless the device is selected by a low on Chip-Select C\S\; see also the chapter SPI", 6 ~{ERR} (out) "Error output; push-pull output. Monitors failures in parallel to the SPI diagnosis word, reset via SPI. E\R\R\ is a latched output.", 7 Q_STB (power) "Standby Regulator Output; the output is active even when the buck regulator and all other circuitry is in off mode", 8 Q_T1 (power) "Voltage Tracker Output T1 tracked to Q_LDO1; bypass with a 1uF ceramic capacitor for stability. It is switched on and off by SPI command. Keep open, if not needed.", 9 Q_T2 (power) "Voltage Tracker Output T2 tracked to Q_LDO1; bypass with a 1uF ceramic capacitor for stability. It is switched on and off by SPI command. Keep open, if not needed.", 10 Q_T3 (power) "Voltage Tracker Output T3 tracked to Q_LDO1; bypass with a 1uF ceramic capacitor for stability. It is switched on and off by SPI command. Keep open, if not needed.", 11 Q_T4 (power) "Voltage Tracker Output T4 tracked to Q_LDO1; bypass with a 1uF ceramic capacitor for stability. It is switched on and off by SPI command. Keep open, if not needed.", 12 Q_T5 (power) "Voltage Tracker Output T5 tracked to Q_LDO1; bypass with a 1uF ceramic capacitor for stability. It is switched on and off by SPI command. Keep open, if not needed.", 13 Q_T6 (power) "Voltage Tracker Output T6 tracked to Q_LDO1; bypass with a 1uF ceramic capacitor for stability. It is switched on and off by SPI command. Keep open, if not needed.", 14 Q_LDO3 (power) "Voltage Regulator Output 3; 5V or 3.3V output; ouput voltage is selected by pin SEL (see also 3.4.2); For stability a ceramic capacitor of 470nF to GND is sufficient.", 15 R3 (oc) "Reset output 3, undervoltage detection for output Q_LDO3; open collector output; an external pullup resistor of 10kOhm is required", 16 R2 (oc) "Reset output 2, undervoltage detection for output Q_LDO3; open collector output; an external pullup resistor of 10kOhm is required", 17 R1 (oc) "Reset output 1, undervoltage detection for output Q_LDO3; open collector output; an external pullup resistor of 10kOhm is required", 18 GND (power) "Ground; to reduce thermal resistance place cooling areas on PCB close to this pins. Those pins are connected internally to the heatslug at the bottom.", 19 GND (power) "Ground; to reduce thermal resistance place cooling areas on PCB close to this pins. Those pins are connected internally to the heatslug at the bottom.", 20 C- "Charge pump capacitor connection; Add the fly-capacitor of 100nF between C+ and C-", 21 C+ "Charge pump capacitor connection; Add the fly-capacitor of 100nF between C+ and C-", 22 CCP (power) "Charge Pump Storage Capacitor Output; Add the storage capacitor of 220nF between pin CCP and GND.", 23 SEL (in) "Select Pin for output voltage adjust of Q_LDO2 and Q_LDO3 (see also 2.2.2)", 24 Q_LDO2 (power) "Voltage Regulator Output 2; 3.3V or 2.6V output; output voltage is selected by pin SEL (see also 3.4.2); For stability a ceramic capacitor of 470nF to GND is sufficient.", 25 FB/L_IN (in) "Feedback and Linear Regulator Input; input connection for the Buck converter output", 26 FB/L_IN (in) "Feedback and Linear Regulator Input; input connection for the Buck converter output", 27 Q_LDO1 (power) "Voltage Regulator Output 1; 5V output; acts as the reference for the voltage trackers.The SPI and window watchdog logic is supplied from this voltage. For stability a ceramic capacitor of 470nF to GND is sufficient.", 28 BOOTSTRAP (power) "Bootstrap Input; add the bootstrap capacitor between pin SW and pin Bootstrap, the capcitance value should be not lower than 2% of the Buck converter output capacitance", 29 SW (power) "Switch Output; connect both pins externally through short lines directly to the cathode of the catch diode and the Buck circuit inductance.", 30 IN (power) "Supply Voltage Input; connect both pins externally through short lines to the input filter/the input capacitors.", 31 SW (power) "Switch Output; connect both pins externally through short lines directly to the cathode of the catch diode and the Buck circuit inductance.", 32 IN (power) "Supply Voltage Input; connect both pins externally through short lines to the input filter/the input capacitors.", 33 BOOST (power) "Boost Input; for switching loss minimization connect a diode (cathode directly to boost pin) in series with a 100nF ceramic capacitor to the IN pin and from the anode of the diode to the buck converter output a 22Ohm (See Datasheet)", 34 WAKE (in) "Wake Up Input; a positive voltage applied to this pin turns on the device", 35 SLEW (in) "Slew control Input; a resistor to GND defines the current slope in the buck switch for reduced EME", 36 GND (power) "Ground; to reduce thermal resistance place cooling areas on PCB close to this pins. Those pins are connected internally to the heatslug at the bottom.", 37 EP (power)